# EAGLE library part RTCC-DS3231 (library eagleLib v2)
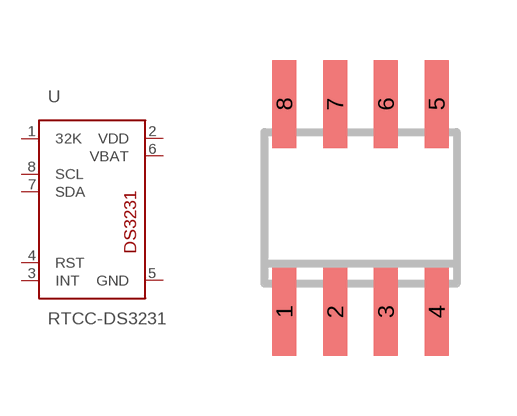
[diagram p24: symbol with the pads of SO08; footprint SO08]

Designator prefix -

## RTCC-DS3231  [SO08]
1  32K
2  VDD
3  INT
4  RST
5  GND
6  VBAT
7  SDA
8  SCL

## Footprint SO08 (pad centres in mm)
SMALL OUTLINE INTEGRATED CIRCUIT body 3.9 mm/JEDEC MS-012AA
smd 0.6 x 2.2: 1 -1.905,-2.6; 2 -0.635,-2.6; 3 0.635,-2.6; 4 1.905,-2.6; 5 1.905,2.6; 6 0.635,2.6; 7 -0.635,2.6; 8 -1.905,2.6